# EAGLE library part ADUM1250ARZ (library ADUM1250ARZ)
Hot Swappable Dual I2C Isolator Source: Datasheet <https://www.analog.com/ADUM1250/datasheet>
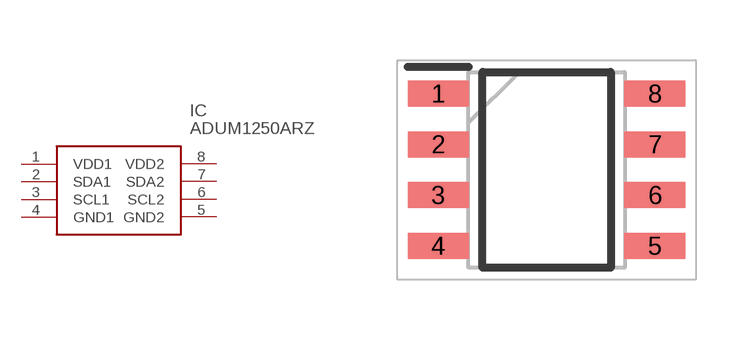
[diagram p0: symbol with the pads of SOIC127P600X175-8N; footprint SOIC127P600X175-8N]

Designator prefix IC

## ADUM1250ARZ (Description: Hot Swappable Dual I2C Isolator; Height: 1.75mm; Manufacturer_Name: Analog Devices; Manufacturer_Part_Number: ADUM1250ARZ)  [SOIC127P600X175-8N]
1  VDD1
2  SDA1
3  SCL1
4  GND1
5  GND2
6  SCL2
7  SDA2
8  VDD2

## Footprint SOIC127P600X175-8N (pad centres in mm)
8-Lead Standard Small Outline Package SOIC
smd 1.525 x 0.65: 1 -2.712,1.905; 2 -2.712,0.635; 3 -2.712,-0.635; 4 -2.712,-1.905; 5 2.712,-1.905; 6 2.712,-0.635; 7 2.712,0.635; 8 2.712,1.905